# Altium footprint library 羽毛球团队.PcbLib: 75 footprints (part 4 of 5)
Each footprint in its own frame and in the unit in brackets; x right, y up, seen from the top. Pads: shape width x height; smd on the part's side, far side on the other; paste and mask are expansions set on the pad; w line width, h text height; cw(c..) or ccw(c..) is an arc to the next point about the centre after c.
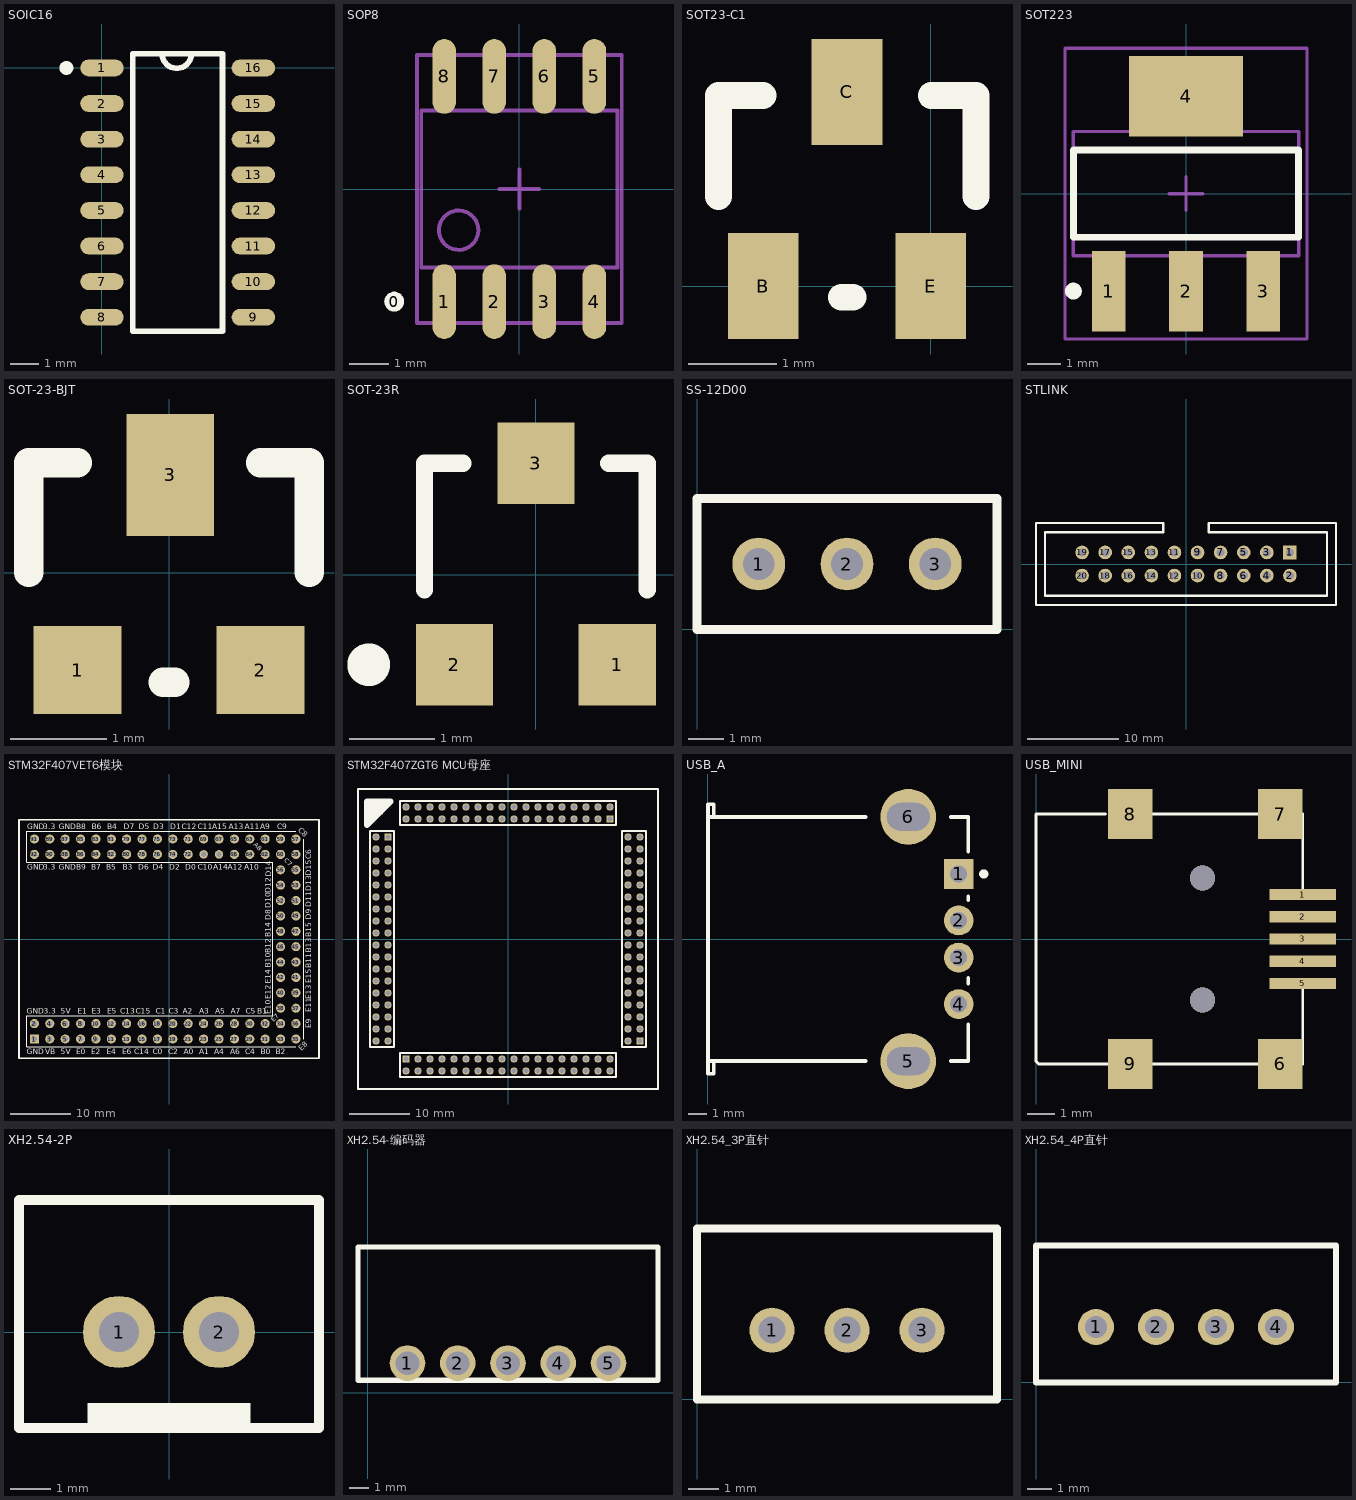
[diagram p3: the footprints below, top view; thin cyan lines are the x and y axes]

## SOIC16 [mm] "SOIC16-39MM"
height 1.75
pads (16):
  oval 1.55x0.6 smd: 1(0,0) 2(0,-1.27) 3(0,-2.54) 4(0,-3.81) 5(0,-5.08) 6(0,-6.35) 7(0,-7.62) 8(0,-8.89) 9(5.4,-8.89) 10(5.4,-7.62) 11(5.4,-6.35) 12(5.4,-5.08) 13(5.4,-3.81) 14(5.4,-2.54) 15(5.4,-1.27) 16(5.4,0)
Top Overlay:
  circle w0.25: c-1.268,0 r0.125
  lines w0.2: 2.143,0.508 ccw(c2.667,0.508) 3.191,0.508 ; 1.1,-9.395 1.1,0.505 4.3,0.505 4.3,-9.395 1.1,-9.395

## SOP8 [mm]
height 1.75
pads (9):
  round 0.508 on Top Overlay: 0(-3.175,-2.858)
  oval 0.6x1.9 smd: 1(-1.905,-2.858) 2(-0.635,-2.858) 3(0.635,-2.858) 4(1.905,-2.858) 5(1.905,2.858) 6(0.635,2.858) 7(-0.635,2.858) 8(-1.905,2.858)
Mechanical 13:
  circle w0.1: c-1.54,-1.045 r0.5
  lines w0.1: -2.49,-1.995 2.49,-1.995 2.49,1.995 -2.49,1.995 -2.49,-1.995
Mechanical 15:
  lines w0.1: -0.5,0 0.5,0 ; 0,-0.5 0,0.5 ; -2.6,-3.4 2.6,-3.4 2.6,3.4 -2.6,3.4 -2.6,-3.4
3D body: height 1.75, standoff 0.1, extent -2.49,-1.995 2.49,1.995

## SOT23-C1 [mm]
pads (3):
  rect 0.8x1.2 smd: B(-1.9,0) C(-0.95,2.2) E(0,0)
Top Overlay:
  lines w0.305: -2.408,1.016 -2.408,2.159 -1.9,2.159 ; -1.011,-0.127 -0.884,-0.127 ; 0.005,2.159 0.513,2.159 0.513,1.016

## SOT223 [mm]
height 1.75
pads (4):
  rect 1x2.4 smd: 1(-2.3,-2.9) 2(0,-2.9) 3(2.3,-2.9)
  rect 3.4x2.4 smd: 4(0,2.9)
Top Overlay:
  circle w0.25: c-3.35,-2.9 r0.125
  lines w0.2: -3.35,-1.3 3.35,-1.3 3.35,1.3 -3.35,1.3 -3.35,-1.3
Mechanical 13:
  lines w0.1: -3.35,-1.85 3.35,-1.85 3.35,1.85 -3.35,1.85 -3.35,-1.85
Mechanical 15:
  lines w0.1: -0.5,0 0.5,0 ; 0,-0.5 0,0.5 ; -3.6,-4.325 3.6,-4.325 3.6,4.325 -3.6,4.325 -3.6,-4.325
3D body: height 1.8, standoff 0.02, extent -3.35,-1.85 3.35,1.85

## SOT-23-BJT [mil]
height 68.9
pads (3):
  rect 36x36 smd: 1(-37.5,-40) 2(37.5,-40)
  rect 36x50 smd: 3(0.5,40)
Top Overlay:
  lines w12: -57.5,0 -57.5,45 -37.5,45 ; -2.5,-45 2.5,-45 ; 37.5,45 57.5,45 57.5,0

## SOT-23R [mm]
height 1.75
pads (3):
  rect 0.9x0.95 smd: 1(0.95,-1.048) 2(-0.95,-1.048) 3(0,1.302)
Top Overlay:
  circle w0.25: c-1.95,-1.048 r0.125
  lines w0.2: -1.3,-0.173 -1.3,1.302 -0.85,1.302 ; 0.85,1.302 1.3,1.302 1.3,-0.173

## SS-12D00 [mm]
pads (3):
  round 1.5 hole 0.9: 1(1.75,1.85) 2(4.25,1.85) 3(6.75,1.85)
Top Overlay:
  lines w0.254: 0,0 0,3.7 8.5,3.7 8.5,0 0,0

## STLINK [mm]
pads (20):
  rect 1.5x1.5 hole 0.9: 1(11.43,1.27)
  round 1.5 hole 0.9: 2(11.43,-1.27) 3(8.89,1.27) 4(8.89,-1.27) 5(6.35,1.27) 6(6.35,-1.27) 7(3.81,1.27) 8(3.81,-1.27) 9(1.27,1.27) 10(1.27,-1.27) 11(-1.27,1.27) 12(-1.27,-1.27) 13(-3.81,1.27) 14(-3.81,-1.27) 15(-6.35,1.27) 16(-6.35,-1.27) 17(-8.89,1.27) 18(-8.89,-1.27) 19(-11.43,1.27) 20(-11.43,-1.27)
Top Overlay:
  lines w0.254: -16.5,-4.5 16.5,-4.5 16.5,4.5 2.5,4.5 2.5,3.5 15.5,3.5 15.5,-3.5 -15,-3.5 -15.5,-3.5 -15.5,3.5 -2.5,3.5 -2.5,4.5 -16.5,4.5 -16.5,-4.5

## STM32F407VET6模块 [mm]
pads (92):
  rect 1.5x1.5 hole 0.9: 1(-22.225,-16.51)
  round 1.5 hole 0.9: 2(-22.225,-13.97) 3(-19.685,-16.51) 4(-19.685,-13.97) 5(-17.145,-16.51) 6(-17.145,-13.97) 7(-14.605,-16.51) 8(-14.605,-13.97) 9(-12.065,-16.51) 10(-12.065,-13.97) 11(-9.525,-16.51) 12(-9.525,-13.97) 13(-6.985,-16.51) 14(-6.985,-13.97) 15(-4.445,-16.51) 16(-4.445,-13.97) 17(-1.905,-16.51) 18(-1.905,-13.97) 19(0.635,-16.51) 20(0.635,-13.97) 21(3.175,-16.51) 22(3.175,-13.97) 23(5.715,-16.51) 24(5.715,-13.97) 25(8.255,-16.51) 26(8.255,-13.97) 27(10.795,-16.51) 28(10.795,-13.97) 29(13.335,-16.51) 30(13.335,-13.97) 31(15.875,-16.51) 32(15.875,-13.97) 33(18.415,-16.51) 34(18.415,-13.97) 35(20.955,-16.51) 36(20.955,-13.97) 37(20.955,-11.43) 38(18.415,-11.43) 39(20.955,-8.89) 40(18.415,-8.89) 41(20.955,-6.35) 42(18.415,-6.35) 43(20.955,-3.81) 44(18.415,-3.81) 45(20.955,-1.27) 46(18.415,-1.27) 47(20.955,1.27) 48(18.415,1.27) 49(20.955,3.81) 50(18.415,3.81) 51(20.955,6.35) 52(18.415,6.35) 53(20.955,8.89) 54(18.415,8.89) 55(20.955,11.43) 56(18.415,11.43) 57(20.955,16.51) 58(20.955,13.97) 59(18.415,16.51) 60(18.415,13.97) 61(15.875,16.51) 62(15.875,13.97) 63(13.335,16.51) 64(13.335,13.97) 65(10.795,16.51) 66(10.795,13.97) 67(8.255,16.51) 69(5.715,16.51) 71(3.175,16.51) 72(3.175,13.97) 73(0.635,16.51) 74(0.635,13.97) 75(-1.905,16.51) 76(-1.905,13.97) 77(-4.445,16.51) 78(-4.445,13.97) 79(-6.985,16.51) 80(-6.985,13.97) 81(-9.525,16.51) 82(-9.525,13.97) 83(-12.065,16.51) 84(-12.065,13.97) 85(-14.605,16.51) 86(-14.605,13.97) 87(-17.145,16.51) 88(-17.145,13.97) 89(-19.685,16.51) 90(-19.685,13.97) 91(-22.225,16.51) 92(-22.225,13.97)
  round 1.4 hole 0.9: 68(8.255,13.97) 70(5.715,13.97)
Top Overlay:
  lines w0.2: 20.955,-17.78 -23.495,-17.78 -23.495,-12.7 17.145,-12.7 17.145,-10.795 17.145,12.7 -23.495,12.7 -23.495,17.78 20.955,17.78 ; 22.225,-16.51 22.225,-12.7 22.225,-10.795 22.225,12.7 22.225,16.51
  lines w0.254: -24.765,-19.685 24.765,-19.685 24.765,19.685 -24.765,19.685 -24.765,-19.685
  text "A5" at 7.616,-12.319 h0.89
  text "A3" at 5.01,-12.319 h0.89
  text "A2" at 2.289,-12.319 h0.89
  text "C3" at -0.07,-12.319 h0.89
  text "C1" at -2.229,-12.319 h0.89
  text "C15" at -5.531,-12.319 h0.89
  text "C13" at -8.071,-12.319 h0.89
  text "E5" at -10.23,-12.319 h0.89
  text "B14" at 16.815,0.279 h0.89
  text "B15" at 23.52,0.33 h0.89
  text "B12" at 16.815,-2.311 h0.89
  text "B13" at 23.52,-2.235 h0.89
  text "B9" at -15.31,11.43 h0.89
  text "B8" at -15.31,18.161 h0.89
  text "B7" at -12.872,11.43 h0.89
  text "B6" at -12.77,18.161 h0.89
  text "B5" at -10.357,11.43 h0.89
  text "B4" at -10.23,18.161 h0.89
  text "B3" at -7.675,11.43 h0.89
  text "D7" at -7.436,18.161 h0.89
  text "D6" at -5.08,11.43 h0.89
  text "D5" at -5.023,18.161 h0.89
  text "D4" at -2.658,11.43 h0.89
  text "D3" at -2.61,18.161 h0.89
  text "D2" at 0.057,11.43 h0.89
  text "D1" at 0.184,18.161 h0.89
  text "D0" at 2.667,11.43 h0.89
  text "C12" at 2.089,18.161 h0.89
  text "C11" at 4.756,18.161 h0.89
  text "C10" at 4.756,11.43 h0.89
  text "A15" at 7.169,18.161 h0.89
  text "A14" at 7.296,11.43 h0.89
  text "A13" at 9.836,18.161 h0.89
  text "A12" at 9.709,11.43 h0.89
  text "A11" at 12.503,18.161 h0.89
  text "A10" at 12.395,11.43 h0.89
  text "A9" at 15.043,18.161 h0.89
  text "A8" at 13.9,15.494 h0.76
  text "C9" at 17.837,18.161 h0.89
  text "C7" at 18.923,12.954 h0.76
  text "C8" at 21.266,17.907 h0.89
  text "C6" at 23.495,13.208 h0.89
  text "D15" at 23.495,10.414 h0.89
  text "D14" at 16.891,10.287 h0.89
  text "D12" at 16.815,7.595 h0.89
  text "D13" at 23.52,7.925 h0.89
  text "D10" at 16.815,5.08 h0.89
  text "D11" at 23.52,5.283 h0.89
  text "D8" at 16.815,3.124 h0.89
  text "D9" at 23.52,3.15 h0.89
  text "B10" at 16.815,-4.75 h0.89
  text "B11" at 23.52,-4.801 h0.89
  text "E14" at 16.815,-7.391 h0.89
  text "E15" at 23.52,-7.315 h0.89
  text "E12" at 16.815,-9.957 h0.89
  text "E13" at 23.52,-9.957 h0.89
  text "E10" at 16.815,-12.395 h0.89
  text "E11" at 23.52,-12.099 h0.89
  text "E9" at 23.52,-14.757 h0.89
  text "E8" at 21.901,-18.542 h0.89
  text "E7" at 17.329,-13.716 h0.76
  text "B2" at 17.583,-19.05 h0.89
  text "B1" at 14.605,-12.319 h0.89
  text "B0" at 15.17,-19.05 h0.89
  text "C5" at 12.63,-12.319 h0.89
  text "C4" at 12.573,-19.05 h0.89
  text "A7" at 10.166,-12.319 h0.89
  text "A6" at 10.09,-19.05 h0.89
  text "A4" at 7.493,-19.05 h0.89
  text "A1" at 4.953,-19.05 h0.89
  text "A0" at 2.413,-19.05 h0.89
  text "C2" at -0.127,-19.05 h0.89
  text "C0" at -2.667,-19.05 h0.89
  text "C14" at -5.715,-19.05 h0.89
  text "E6" at -7.747,-19.05 h0.89
  text "E4" at -10.287,-19.05 h0.89
  text "E3" at -12.77,-12.319 h0.89
  text "E2" at -12.827,-19.05 h0.89
  text "E1" at -15.056,-12.319 h0.89
  text "E0" at -15.31,-19.05 h0.89
  text "5V" at -17.907,-19.05 h0.89
  text "VB" at -20.447,-19.05 h0.89
  text "GND" at -23.495,-19.05 h0.89
  text "5V" at -17.85,-12.319 h0.89
  text "3.3" at -20.701,-12.319 h0.89
  text "GND" at -23.495,-12.319 h0.89
  text "GND" at -18.231,11.43 h0.89
  text "GND" at -18.231,18.161 h0.89
  text "3.3" at -20.771,18.161 h0.89
  text "3.3" at -20.771,11.43 h0.89
  text "GND" at -23.438,11.43 h0.89
  text "GND" at -23.438,18.161 h0.89

## STM32F407ZGT6 MCU母座 [mm]
height 1.75
pads (144):
  round 1.2 hole 0.762: 1(-20,-1) 2(-22,-1) 3(-20,-3) 4(-22,-3) 5(-20,-5) 6(-22,-5) 7(-20,-7) 8(-22,-7) 9(-20,-9) 10(-22,-9) 11(-20,-11) 12(-22,-11) 13(-20,-13) 14(-22,-13) 15(-20,-15) 16(-22,-15) 17(-20,-17) 18(-22,-17) 20(-17,-22) 21(-15,-20) 22(-15,-22) 23(-13,-20) 24(-13,-22) 25(-11,-20) 26(-11,-22) 27(-9,-20) 28(-9,-22) 29(-7,-20) 30(-7,-22) 31(-5,-20) 32(-5,-22) 33(-3,-20) 34(-3,-22) 35(-1,-20) 36(-1,-22) 37(1,-20) 38(1,-22) 39(3,-20) 40(3,-22) 41(5,-20) 42(5,-22) 43(7,-20) 44(7,-22) 45(9,-20) 46(9,-22) 47(11,-20) 48(11,-22) 49(13,-20) 50(13,-22) 51(15,-20) 52(15,-22) 53(17,-20) 54(17,-22) 55(20,-17) 57(20,-15) 58(22,-15) 59(20,-13) 60(22,-13) 61(20,-11) 62(22,-11) 63(20,-9) 64(22,-9) 65(20,-7) 66(22,-7) 67(20,-5) 68(22,-5) 69(20,-3) 70(22,-3) 71(20,-1) 72(22,-1) 73(20,1) 74(22,1) 75(20,3) 76(22,3) 77(20,5) 78(22,5) 79(20,7) 80(22,7) 81(20,9) 82(22,9) 83(20,11) 84(22,11) 85(20,13) 86(22,13) 87(20,15) 88(22,15) 89(20,17) 90(22,17) 91(17,22) 93(15,20) 94(15,22) 95(13,20) 96(13,22) 97(11,20) 98(11,22) 99(9,20) 100(9,22) 101(7,20) 102(7,22) 103(5,20) 104(5,22) 105(3,20) 106(3,22) 107(1,20) 108(1,22) 109(-1,20) 110(-1,22) 111(-3,20) 112(-3,22) 113(-5,20) 114(-5,22) 115(-7,20) 116(-7,22) 117(-9,20) 118(-9,22) 119(-11,20) 120(-11,22) 121(-13,20) 122(-13,22) 123(-15,20) 124(-15,22) 125(-17,20) 126(-17,22) 128(-22,17) 129(-20,15) 130(-22,15) 131(-20,13) 132(-22,13) 133(-20,11) 134(-22,11) 135(-20,9) 136(-22,9) 137(-20,7) 138(-22,7) 139(-20,5) 140(-22,5) 141(-20,3) 142(-22,3) 143(-20,1) 144(-22,1)
  rect 1.2x1.2 hole 0.762: 19(-17,-20) 56(22,-17) 92(17,20) 127(-20,17)
Top Overlay:
  lines w0.254: -23,-18 -19,-18 ; -23,-18 -23,18 -19,18 -19,-18 ; -23,-18 -19,-18 ; -25,-25 -25,25 25,25 25,-25 -25,-25 ; -18,-23 -18,-19 18,-19 18,-23 -18,-23 ; -18,19 -18,23 18,23 18,19 -18,19 ; 19,-18 19,18 23,18 23,-18 19,-18
  lines w1: -22.758,20.336 -22.758,22.673 ; -22.377,20.463 -22.377,22.8 ; -21.819,20.641 -21.819,22.622 ; -21.234,21.2 -21.234,22.825 ; -23.47,19.015 -23.47,22.901 -19.583,22.901 -23.47,19.015

## USB_A [mm]
height 1.75
pads (6):
  rect 1.6x1.6 hole 0.92: 1(13.49,3.5)
  round 1.6 hole 0.92: 2(13.49,1) 3(13.49,-1) 4(13.49,-3.5)
  round 3 / inner round 3.8 / far side round 3.8 hole 1.5 slot 2.3 at 0 deg: 5(10.78,-6.57) 6(10.78,6.57)
Top Overlay:
  circle w0.25: c14.84,3.5 r0.125
  lines w0.2: 0.32,-6.565 0.32,-7.25 0,-7.25 0,-6.565 ; 0.32,6.565 0.32,7.25 0,7.25 0,6.565 ; 8.48,-6.565 0,-6.565 ; 8.48,6.565 0,6.565 ; 13.08,-6.565 14,-6.565 14,-4.59 ; 13.08,6.565 14,6.565 14,4.7 ; 14,-2.41 14,-2.09 ; 14,2.09 14,2.3 ; 0,-6.565 0,6.565

## USB_MINI [mm]
height 1.75
pads (9):
  rect 2.4x0.4 smd: 1(9.6,1.6) 2(9.6,0.8) 3(9.6,0) 4(9.6,-0.8) 5(9.6,-1.6)
  rect 1.6x1.8 smd: 6(8.8,-4.5) 7(8.8,4.5) 8(3.4,4.5) 9(3.4,-4.5)
via 6,-2.2 diameter 0.9 hole 0.9
via 6,2.2 diameter 0.9 hole 0.9
Top Overlay:
  lines w0.1: 2.5,4.5 0,4.5 0,-4.4 0.1,-4.5 2.6,-4.5 ; 4.2,-4.5 8,-4.5 ; 4.2,4.5 8,4.5 ; 9.6,-4.5 9.6,-1.8 ; 9.6,1.8 9.6,4.5

## XH2.54-2P [mm]
pads (2):
  round 1.8 hole 1: 1(-1.25,0) 2(1.25,0)
Top Overlay:
  rectangle: -2.032,-2.4 2.032,-1.778
  lines w0.254: -3.75,-2.4 3.75,-2.4 3.75,3.3 -3.75,3.3 -3.75,-2.4

## XH2.54-编码器 [mm]
pads (5):
  round 1.8 hole 1.2: 1(2,1.5) 2(4.54,1.5) 3(7.08,1.5) 4(9.62,1.5) 5(12.16,1.5)
Top Overlay:
  lines w0.254: -0.5,0.635 14.66,0.635 14.66,7.366 -0.5,7.366 -0.5,0.635

## XH2.54_3P直针 [mm]
pads (3):
  round 1.5 hole 0.9: 1(2.5,2.31) 2(5,2.31) 3(7.5,2.31)
Top Overlay:
  lines w0.254: 0,0 10,0 10,5.7 0,5.7 0,0

## XH2.54_4P直针 [mm]
pads (4):
  round 1.5 hole 0.9: 1(2.5,2.31) 2(5,2.31) 3(7.5,2.31) 4(10,2.31)
Top Overlay:
  lines w0.254: 0,0 12.5,0 12.5,5.7 0,5.7 0,0